# Altium footprint library Microchip_Atmel_ATTINY85_20SU_1.PcbLib: 1 footprints
Each footprint in its own frame and in the unit in brackets; x right, y up, seen from the top. Pads: shape width x height; smd on the part's side, far side on the other; paste and mask are expansions set on the pad; w line width, h text height; cw(c..) or ccw(c..) is an arc to the next point about the centre after c.
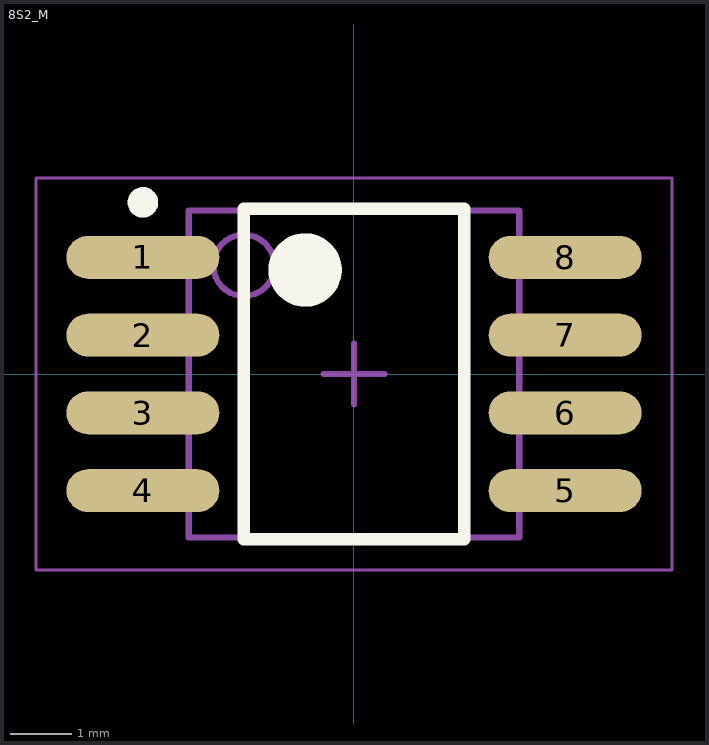
[diagram p0: the footprint, top view; thin cyan lines are the x and y axes]

## 8S2_M [mm] "SOP, 8-Leads, Body 5.3x5.3mm, Pitch 1.27mm, IPC Low Density"
height 2.16
pads (8):
  oval 2.5x0.7 smd: 1(-3.45,1.905) 2(-3.45,0.635) 3(-3.45,-0.635) 4(-3.45,-1.905) 5(3.45,-1.905) 6(3.45,-0.635) 7(3.45,0.635) 8(3.45,1.905)
Top Overlay:
  circle w0.6: c-0.8,1.7 r0.3
  circle w0.25: c-3.45,2.805 r0.125
  lines w0.2: -1.8,-2.7 1.8,-2.7 1.8,2.7 -1.8,2.7 -1.8,-2.7
Mechanical 13:
  circle w0.1: c-1.8,1.775 r0.5
  lines w0.1: -2.7,-2.675 2.7,-2.675 2.7,2.675 -2.7,2.675 -2.7,-2.675
Mechanical 15:
  lines w0.05: -5.2,-3.2 5.2,-3.2 5.2,3.2 -5.2,3.2 -5.2,-3.2
  lines w0.1: -0.5,0 0.5,0 ; 0,-0.5 0,0.5
3D body: height 2.16, standoff 0.05, extent -2.7,-2.675 2.7,2.675